# Altium schematic symbol library LEDs.SchLib: 31 symbols
Pins are listed as number, name and electrical type; pins without a type are passive.

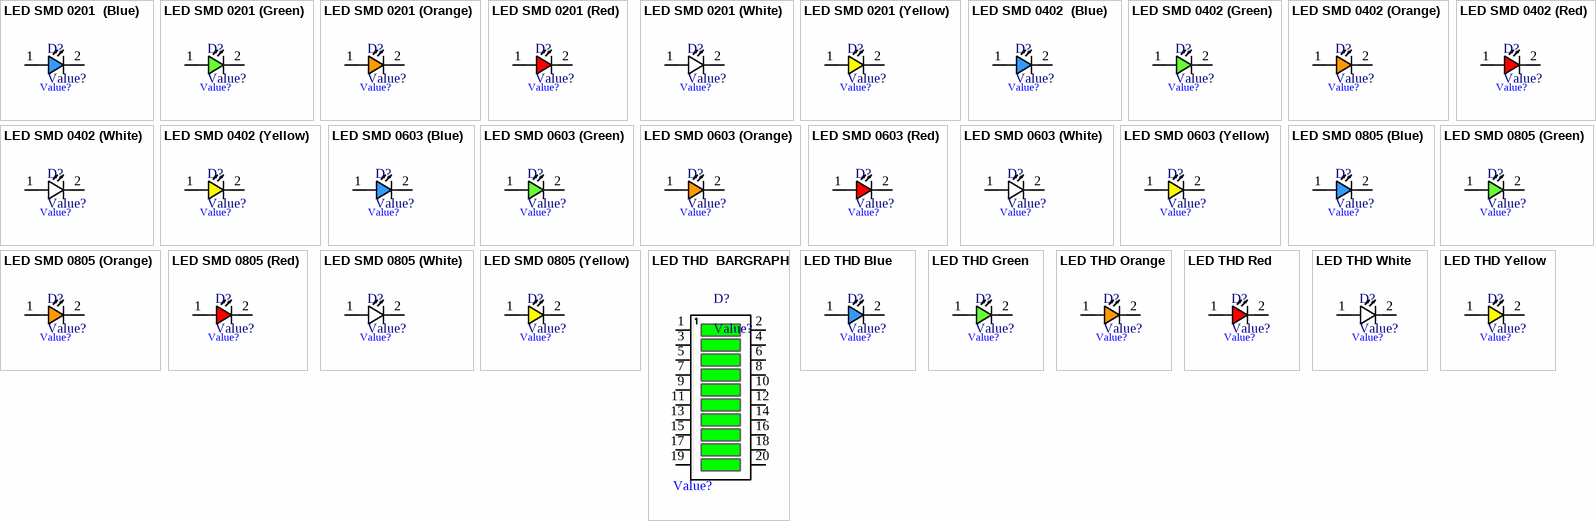
[diagram p0: symbols LED SMD 0201  (Blue) to LED THD Yellow]

## LED SMD 0201  (Blue)
designator D?, comment Value?
LED SMD Blue 0201; Value: Value?
pins: 1 ANODE, 2 CATHODE

## LED SMD 0201 (Green)
designator D?, comment Value?
LED SMD Green 0201; Value: Value?
pins: 1 ANODE, 2 CATHODE

## LED SMD 0201 (Orange)
designator D?, comment Value?
LED SMD Orange 0201; Value: Value?
pins: 1 ANODE, 2 CATHODE

## LED SMD 0201 (Red)
designator D?, comment Value?
LED SMD Red 0201; Value: Value?
pins: 1 ANODE, 2 CATHODE

## LED SMD 0201 (White)
designator D?, comment Value?
LED SMD White 0201; Value: Value?
pins: 1 ANODE, 2 CATHODE

## LED SMD 0201 (Yellow)
designator D?, comment Value?
LED SMD Yellow 0201; Value: Value?
pins: 1 ANODE, 2 CATHODE

## LED SMD 0402  (Blue)
designator D?, comment Value?
LED SMD Blue 0402; Value: Value?
pins: 1 ANODE, 2 CATHODE

## LED SMD 0402 (Green)
designator D?, comment Value?
LED SMD Green 0402; Value: Value?
pins: 1 ANODE, 2 CATHODE

## LED SMD 0402 (Orange)
designator D?, comment Value?
LED SMD Orange 0402; Value: Value?
pins: 1 ANODE, 2 CATHODE

## LED SMD 0402 (Red)
designator D?, comment Value?
LED SMD Red 0402; Value: Value?
pins: 1 ANODE, 2 CATHODE

## LED SMD 0402 (White)
designator D?, comment Value?
LED SMD White 0402; Value: Value?
pins: 1 ANODE, 2 CATHODE

## LED SMD 0402 (Yellow)
designator D?, comment Value?
LED SMD Yellow 0402; Value: Value?
pins: 1 ANODE, 2 CATHODE

## LED SMD 0603 (Blue)
designator D?, comment Value?
LED SMD Blue 0603; Value: Value?
pins: 1 ANODE, 2 CATHODE

## LED SMD 0603 (Green)
designator D?, comment Value?
LED SMD Green  0603; Value: Value?
pins: 1 ANODE, 2 CATHODE

## LED SMD 0603 (Orange)
designator D?, comment Value?
LED SMD Orange 0603; Value: Value?
pins: 1 ANODE, 2 CATHODE

## LED SMD 0603 (Red)
designator D?, comment Value?
LED SMD Red 0603; Value: Value?
pins: 1 ANODE, 2 CATHODE

## LED SMD 0603 (White)
designator D?, comment Value?
LED SMD White 0603; Value: Value?
pins: 1 ANODE, 2 CATHODE

## LED SMD 0603 (Yellow)
designator D?, comment Value?
LED SMD Yellow 0603; Value: Value?
pins: 1 ANODE, 2 CATHODE

## LED SMD 0805 (Blue)
designator D?, comment Value?
LED SMD Blue 0805; Value: Value?
pins: 1 ANODE, 2 CATHODE

## LED SMD 0805 (Green)
designator D?, comment Value?
LED SMD Green 0805; Value: Value?
pins: 1 ANODE, 2 CATHODE

## LED SMD 0805 (Orange)
designator D?, comment Value?
LED SMD Orange 0805; Value: Value?
pins: 1 ANODE, 2 CATHODE

## LED SMD 0805 (Red)
designator D?, comment Value?
LED SMD Red 0805; Value: Value?
pins: 1 ANODE, 2 CATHODE

## LED SMD 0805 (White)
designator D?, comment Value?
LED SMD White 0805; Value: Value?
pins: 1 ANODE, 2 CATHODE

## LED SMD 0805 (Yellow)
designator D?, comment Value?
LED SMD Yellow 0805; Value: Value?
pins: 1 ANODE, 2 CATHODE

## LED THD  BARGRAPH
designator D?, comment Value?
LED THD BARGRAPH; Value: Value?
pins: 1 A1, 2 B1, 3 A2, 4 B2, 5 A3, 6 B3, 7 A4, 8 B4, 9 A5, 10 B5, 11 A6, 12 B6, 13 A7, 14 B7, 15 A8, 16 B8, 17 A9, 18 B9, 19 A10, 20 B10

## LED THD Blue
designator D?, comment Value?
LED THD Blue; Value: Value?
pins: 1 ANODE, 2 CATHODE

## LED THD Green
designator D?, comment Value?
LED THD Green; Value: Value?
pins: 1 ANODE, 2 CATHODE

## LED THD Orange
designator D?, comment Value?
LED THD Orange; Value: Value?
pins: 1 ANODE, 2 CATHODE

## LED THD Red
designator D?, comment Value?
LED THD Red; Value: Value?
pins: 1 ANODE, 2 CATHODE

## LED THD White
designator D?, comment Value?
LED THD White; Value: Value?
pins: 1 ANODE, 2 CATHODE

## LED THD Yellow
designator D?, comment Value?
LED THD Yellow; Value: Value?
pins: 1 ANODE, 2 CATHODE